# EAGLE library part 4052 (library kmod-ics)
Dual 4-channel ANALOG MULTIPLEXER
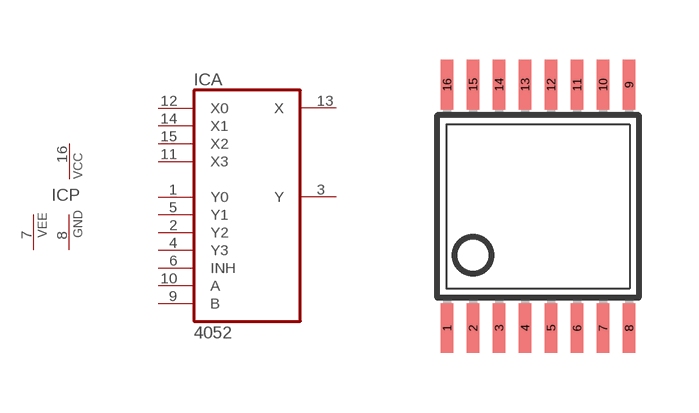
[diagram p6: symbol with the pads of TSSOP16; footprint TSSOP16]

Designator prefix IC; gates A=4052 P=PWR+VEE

## 4052  [TSSOP16]
1  A:Y0
2  A:Y2
3  A:Y
4  A:Y3
5  A:Y1
6  A:INH  in
7  P:VEE  pwr
8  P:GND  pwr
9  A:B  in
10  A:A  in
11  A:X3
12  A:X0
13  A:X
14  A:X1
15  A:X2
16  P:VCC  pwr

## Footprint TSSOP16 (pad centres in mm)
Thin Shrink Small Outline Plastic 16, 4.40mm width Forget where I copied it from. Same thoughts as the TSSOP-14: works well but maybe could lengthen the pads. - ok made them longer by 10mil (0.25mm); they now stick past the end by about 0.5mm
smd 0.305 x 1.245: 1 -2.275,-3.045; 2 -1.625,-3.045; 3 -0.975,-3.045; 4 -0.325,-3.045; 5 0.325,-3.045; 6 0.975,-3.045; 7 1.625,-3.045; 8 2.275,-3.045; 9 2.275,3.045; 10 1.625,3.045; 11 0.975,3.045; 12 0.325,3.045; 13 -0.325,3.045; 14 -0.975,3.045; 15 -1.625,3.045; 16 -2.275,3.045